# EAGLE library part KT403A (library mille-feuille)
MP3 Player IC
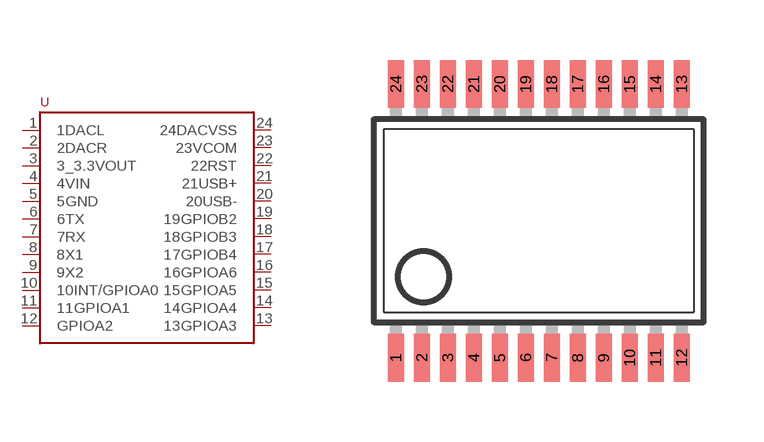
[diagram p37: symbol with the pads of SSOP24; footprint SSOP24]

Designator prefix U

## KT403A  [SSOP24]
1  1DACL
2  2DACR
3  3_3.3VOUT
4  4VIN
5  5GND
6  6TX
7  7RX
8  8X1
9  9X2
10  10INT/GPIOA0
11  11GPIOA1
12  GPIOA2
13  13GPIOA3
14  14GPIOA4
15  15GPIOA5
16  16GPIOA6
17  17GPIOB4
18  18GPIOB3
19  19GPIOB2
20  20USB-
21  21USB+
22  22RST
23  23VCOM
24  24DACVSS

## Footprint SSOP24 (pad centres in mm)
Small Shrink Outline Package SOT340-1 / JEDEC MO-150AG
smd 0.4 x 1.2: 1 -3.575,-3.42; 2 -2.925,-3.42; 3 -2.275,-3.42; 4 -1.625,-3.42; 5 -0.975,-3.42; 6 -0.325,-3.42; 7 0.325,-3.42; 8 0.975,-3.42; 9 1.625,-3.42; 10 2.275,-3.42; 11 2.925,-3.42; 12 3.575,-3.42; 13 3.575,3.42; 14 2.925,3.42; 15 2.275,3.42; 16 1.625,3.42; 17 0.975,3.42; 18 0.325,3.42; 19 -0.325,3.42; 20 -0.975,3.42; 21 -1.625,3.42; 22 -2.275,3.42; 23 -2.925,3.42; 24 -3.575,3.42